# EAGLE library part RNX10 (library resistor-net-rp)
RESISTOR NETWORK
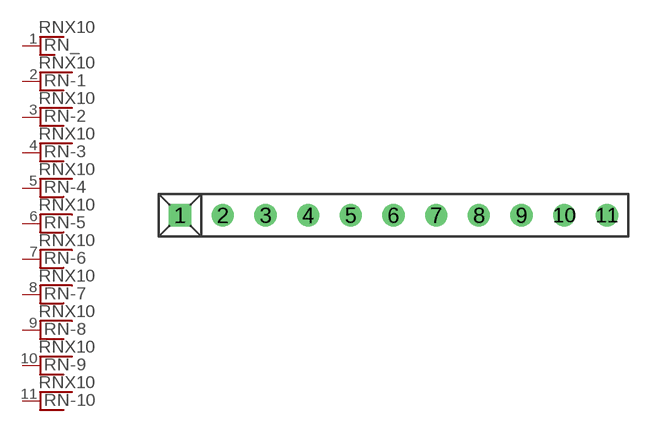
[diagram p11: symbol with the pads of RN-11; footprint RN-11]

Designator prefix RN; gates -1=RNX -2=RNX -3=RNX -4=RNX -5=RNX -6=RNX -7=RNX -8=RNX -9=RNX -10=RNX _=RN_1

## RNX10 (OC_FARNELL: unknown; OC_NEWARK: unknown)  [RN-11]
1  _:1  pas
2  -1:1  pas
3  -2:1  pas
4  -3:1  pas
5  -4:1  pas
6  -5:1  pas
7  -6:1  pas
8  -7:1  pas
9  -8:1  pas
10  -9:1  pas
11  -10:1  pas

## Footprint RN-11 (pad centres in mm)
RESISTOR NETWORK
drill 0.813 square: 1 -12.7,0
drill 0.813 round: 2 -10.16,0; 3 -7.62,0; 4 -5.08,0; 5 -2.54,0; 6 0,0; 7 2.54,0; 8 5.08,0; 9 7.62,0; 10 10.16,0; 11 12.7,0